# Altium footprint library OSSI.PCBLIB: 194 footprints (part 3 of 13)
Each footprint in its own frame and in the unit in brackets; x right, y up, seen from the top. Pads: shape width x height; smd on the part's side, far side on the other; paste and mask are expansions set on the pad; w line width, h text height; cw(c..) or ccw(c..) is an arc to the next point about the centre after c.
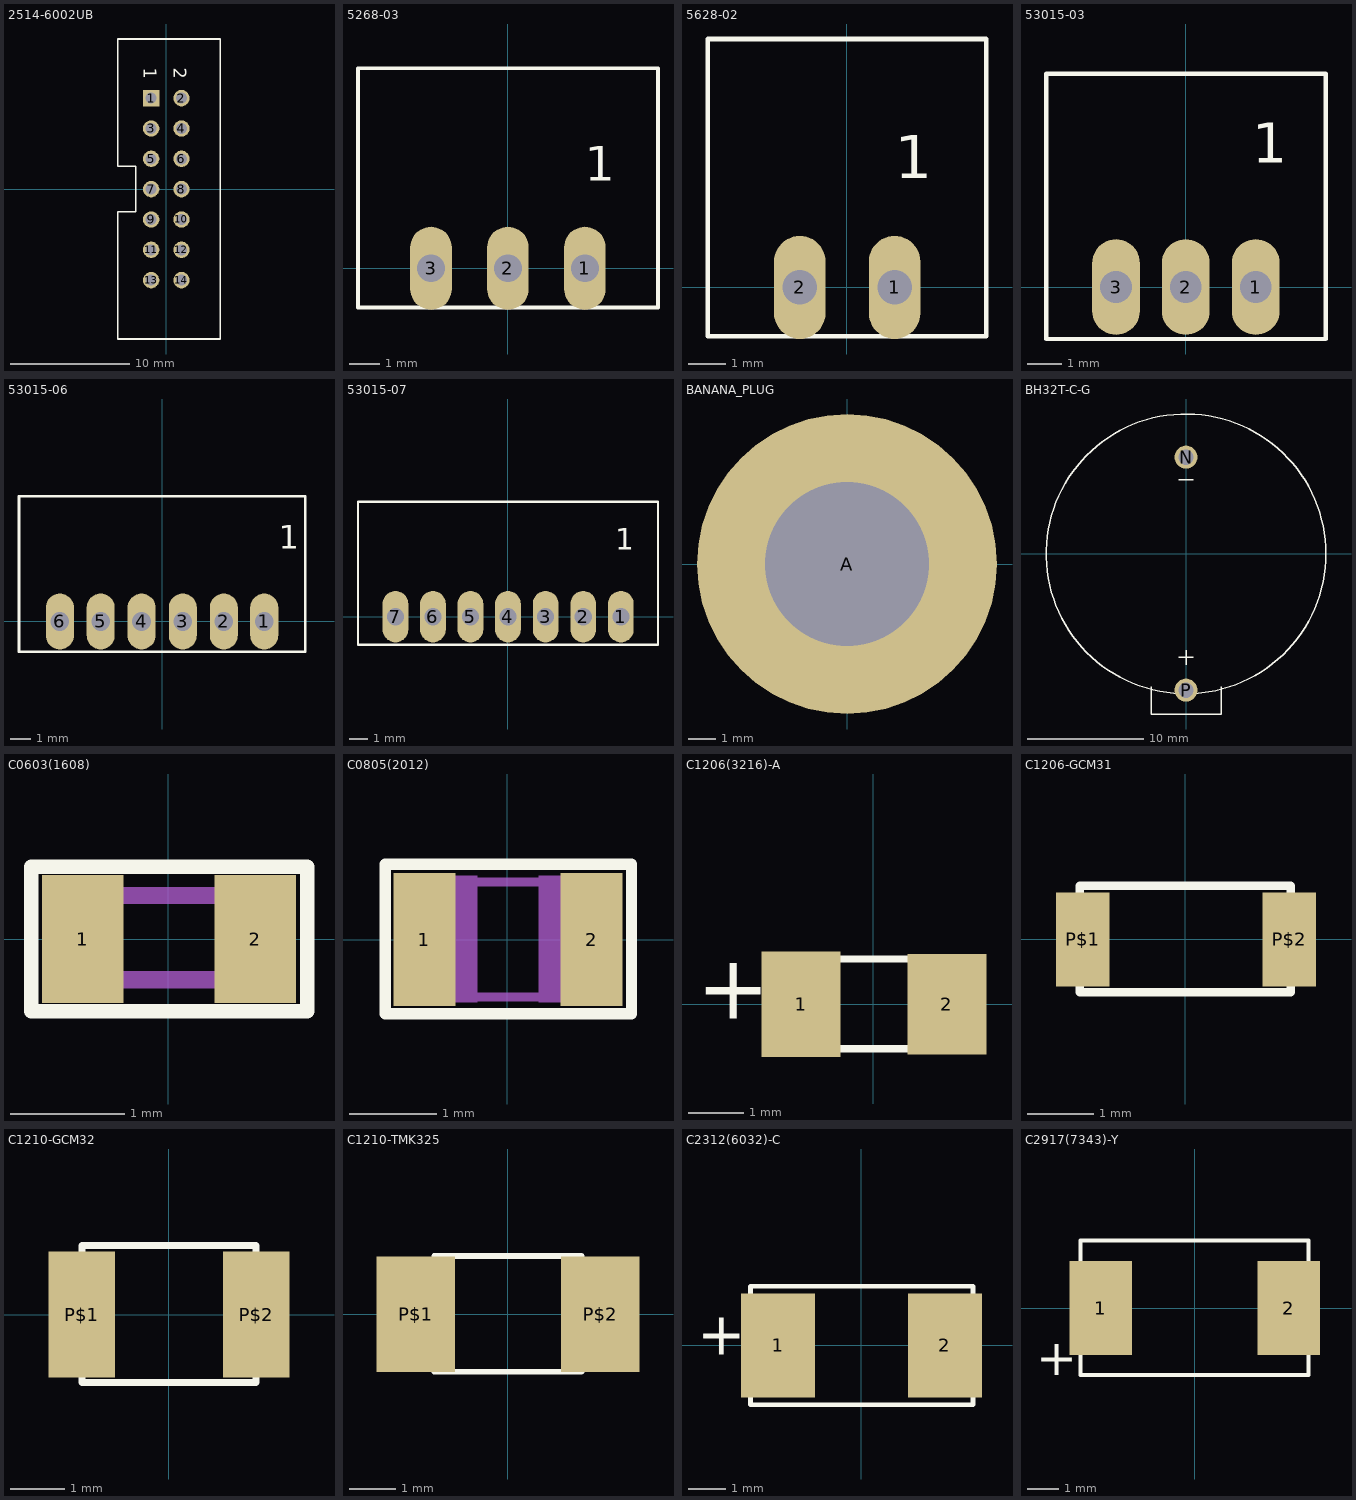
[diagram p2: the footprints below, top view; thin cyan lines are the x and y axes]

## 2514-6002UB [mil]
pads (14):
  rect 54x54 hole 36: 1(-50,300)
  round 54 hole 36: 2(50,300) 3(-50,200) 4(50,200) 5(-50,100) 6(50,100) 7(-50,0) 8(50,0) 9(-50,-100) 10(50,-100) 11(-50,-200) 12(50,-200) 13(-50,-300) 14(50,-300)
Top Overlay:
  lines w5: -160.24,-494.09 178,-494.09 178,495 -160.24,495 -160.24,75 -100,75 -100,-75 -160.24,-75 -160.24,-494.09
  text "1" at -75,400 h42.5
  text "2" at 25,400 h42.5
Mechanical 2:
  text ">NAME" at -250,225 h42.5
Mechanical 4:
  text ">VALUE" at -175,225 h42.5

## 5268-03 [mil]
pads (3):
  oval 54x108 hole 36: 1(100,0) 2(0,0) 3(-100,0)
Top Overlay:
  lines w5: -194.88,-51.18 -194.88,260 195,260 195,-51.18 -194.88,-51.18
  text "1" at 100,99 h77.5
Mechanical 2:
  text ">NAME" at -196.06,345 h77.5
Mechanical 4:
  text ">VALUE" at -196.06,283 h77.5

## 5628-02 [mil]
pads (2):
  oval 54x108 hole 36: 1(50,0) 2(-49.21,0)
Top Overlay:
  lines w5: -145.67,-51.18 -145.67,260 146,260 146,-51.18 -145.67,-51.18
  text "1" at 50,99 h77.5
Mechanical 2:
  text ">NAME" at -147.64,345 h77.5
Mechanical 4:
  text ">VALUE" at -147.64,283 h77.5

## 53015-03 [mil]
pads (3):
  oval 54x108 hole 36: 1(79,0) 2(0,0) 3(-78.74,0)
Top Overlay:
  lines w5: -157.48,-58.66 158,-58.66 158,241 -157.48,241 -157.48,-58.66
  text "1" at 75,125 h77.5
Mechanical 2:
  text ">NAME" at -157.48,301 h77.5
Mechanical 4:
  text ">VALUE" at -157.48,247 h77.5

## 53015-06 [mil]
pads (6):
  oval 54x108 hole 36: 1(197,0) 2(119,0) 3(40,0) 4(-39.37,0) 5(-118.11,0) 6(-196.85,0)
Top Overlay:
  lines w5: -275.59,-58.66 276,-58.66 276,241 -275.59,241 -275.59,-58.66
  text "1" at 225,125 h77.5
Mechanical 2:
  text ">NAME" at -250,151 h77.5
Mechanical 4:
  text ">VALUE" at -254.33,72 h77.5

## 53015-07 [mil]
pads (7):
  oval 54x108 hole 36: 1(237,0) 2(158,0) 3(79,0) 4(0,0) 5(-78.74,0) 6(-157.48,0) 7(-236.22,0)
Top Overlay:
  lines w5: -314.96,-58.66 315,-58.66 315,241 -314.96,241 -314.96,-58.66
  text "1" at 225,125 h77.5
Mechanical 2:
  text ">NAME" at -300,151 h77.5
Mechanical 4:
  text ">VALUE" at -304.33,72 h77.5

## BANANA_PLUG [mil]
pads (1):
  round 434 hole 237: A(0,0)
Mechanical 2:
  text ">NAME" at 275,-25 h77.5
Mechanical 4:
  text ">VALUE" at 275,-100 h77.5

## BH32T-C-G [mil]
pads (2):
  round 78 hole 52: N(0,327) P(0,-460.63)
Top Overlay:
  circle w5: c0,0 r473
  lines w5: -118.11,-450 -118.11,-541.34 119,-541.34 119,-450 ; -25,-350 25,-350 ; -25,250 25,250 ; 0,-375 0,-325

## C0603(1608) [mil]
pads (2):
  rect 28x44 smd: 1(-29.53,0) 2(30,0)
Top Overlay:
  lines w5: -47.24,-25 48,-25 48,25 -47.24,25 -47.24,-25
Mechanical 2:
  text ">NAME" at -35,35 h77.5
Mechanical 4:
  text ">VALUE" at -35,-80 h77.5
Mechanical 16:
  rectangle: 17,-17 33,17
  rectangle: -33,-17 -17,17
  lines w6: -17.01,-14.02 18,-14.02 ; -17.01,15 18,15

## C0805(2012) [mil]
pads (2):
  rect 28x60 smd: 1(-37.4,0) 2(38,0)
Top Overlay:
  lines w5: -55.12,-33.46 56,-33.46 56,34 -55.12,34 -55.12,-33.46
Mechanical 2:
  text ">NAME" at -35,40 h77.5
Mechanical 4:
  text ">VALUE" at -35,-90 h77.5
Mechanical 16:
  rectangle: -43,-28.5 -13.47,29
  rectangle: 14,-28.5 44,29
  lines w4: -15,26 15,26 ; -14.02,-25.98 15,-25.98

## C1206(3216)-A [mil]
pads (2):
  rect 56x75 smd: 1(-51.18,0)
  rect 56x71 smd: 2(52,0)
Top Overlay:
  lines w5: -62.99,-31.5 63,-31.5 63,32 -62.99,32 -62.99,-31.5
  text "+" at -125,-25 h77.5
Mechanical 2:
  text ">NAME" at -110,40 h77.5
Mechanical 4:
  text ">VALUE" at -110,-90 h77.5

## C1206-GCM31 [mil]
pads (2):
  rect 32x56 smd: P$1(-61.02,0) P$2(62,0)
Top Overlay:
  lines w5: -62.99,-31.5 63,-31.5 63,32 -62.99,32 -62.99,-31.5
Mechanical 2:
  text ">NAME" at -125,50 h77.5
Mechanical 4:
  text ">VALUE" at -125,-100 h77.5

## C1210-GCM32 [mil]
pads (2):
  rect 48x91 smd: P$1(-62.99,0) P$2(63,0)
Top Overlay:
  lines w5: -62.99,-49.21 -62.99,50 63,50 63,-49.21 -62.99,-49.21
Mechanical 2:
  text ">NAME" at -125,75 h77.5
Mechanical 4:
  text ">VALUE" at -125,-125 h77.5

## C1210-TMK325 [mil]
pads (2):
  rect 67x99 smd: P$1(-78.74,0) P$2(79,0)
Top Overlay:
  lines w5: -62.99,-49.21 63,-49.21 63,50 -62.99,50 -62.99,-49.21

## C2312(6032)-C [mil]
pads (2):
  rect 79x111 smd: 1(-88.58,0) 2(89,0)
Top Overlay:
  lines w5: -118.11,-62.99 119,-62.99 119,63 -118.11,63 -118.11,-62.99
  text "+" at -175,-25 h77.5
Mechanical 2:
  text ">NAME" at -160,90 h77.5
Mechanical 4:
  text ">VALUE" at -160,-140 h77.5

## C2917(7343)-Y [mil]
pads (2):
  rect 79x119 smd: 1(-118.11,0) 2(119,0)
Top Overlay:
  lines w5: -143.7,-84.65 144,-84.65 144,85 -143.7,85 -143.7,-84.65
  text "+" at -200,-100 h77.5
Mechanical 2:
  text ">NAME" at -160,115 h77.5
Mechanical 4:
  text ">VALUE" at -160,-165 h77.5